# EAGLE library part ESP32_C6_LIBRARY_MAX17048G+T10 (library InkTime_v5)
Check availability <https://pricing.snapeda.com/parts/MAX17048G%2BT10/Analog%20Devices/view-part?ref=eda>
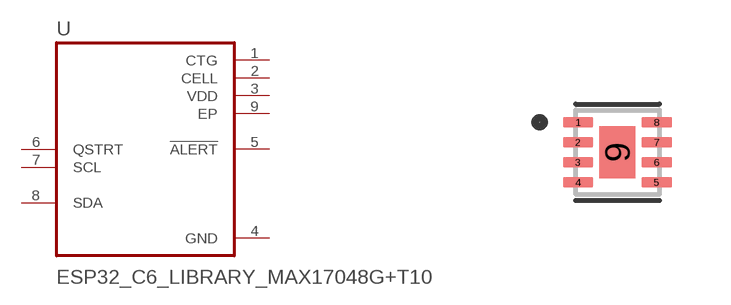
[diagram p2: symbol with the pads of ESP32_C6_LIBRARY_SON50P200X200X80-9N; footprint ESP32_C6_LIBRARY_SON50P200X200X80-9N]

Designator prefix U

## ESP32_C6_LIBRARY_MAX17048G+T10  [ESP32_C6_LIBRARY_SON50P200X200X80-9N]
1  CTG  pwr
2  CELL  pwr
3  VDD  pwr
4  GND  pwr
5  !ALERT  out
6  QSTRT  in
7  SCL  in
8  SDA
9  EP  pwr

## Footprint ESP32_C6_LIBRARY_SON50P200X200X80-9N (pad centres in mm)
smd 0.76 x 0.27: 1 -0.985,0.75; 2 -0.985,0.25; 3 -0.985,-0.25; 4 -0.985,-0.75; 5 0.985,-0.75; 6 0.985,-0.25; 7 0.985,0.25; 8 0.985,0.75
smd 0.9 x 1.3: 9 0,0